# EAGLE library part PICKIT_HDR (library GadgetFactory_v1)
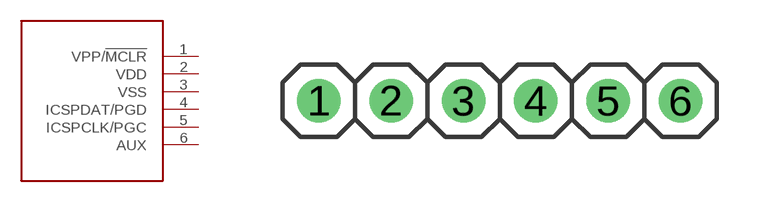
[diagram p26: symbol with the pads of 1X06; footprint 1X06]

Designator prefix PGM

## PICKIT_HDR  [1X06]
1  VPP/!MCLR  in
2  VDD  pwr
3  VSS  pas
4  ICSPDAT/PGD
5  ICSPCLK/PGC
6  AUX

## Footprint 1X06 (pad centres in mm)
PIN HEADER
drill 1.016: 1 -6.35,0; 2 -3.81,0; 3 -1.27,0; 4 1.27,0; 5 3.81,0; 6 6.35,0